# Altium footprint library misc.PcbLib: 32 footprints (part 2 of 2)
Each footprint in its own frame and in the unit in brackets; x right, y up, seen from the top. Pads: shape width x height; smd on the part's side, far side on the other; paste and mask are expansions set on the pad; w line width, h text height; cw(c..) or ccw(c..) is an arc to the next point about the centre after c.
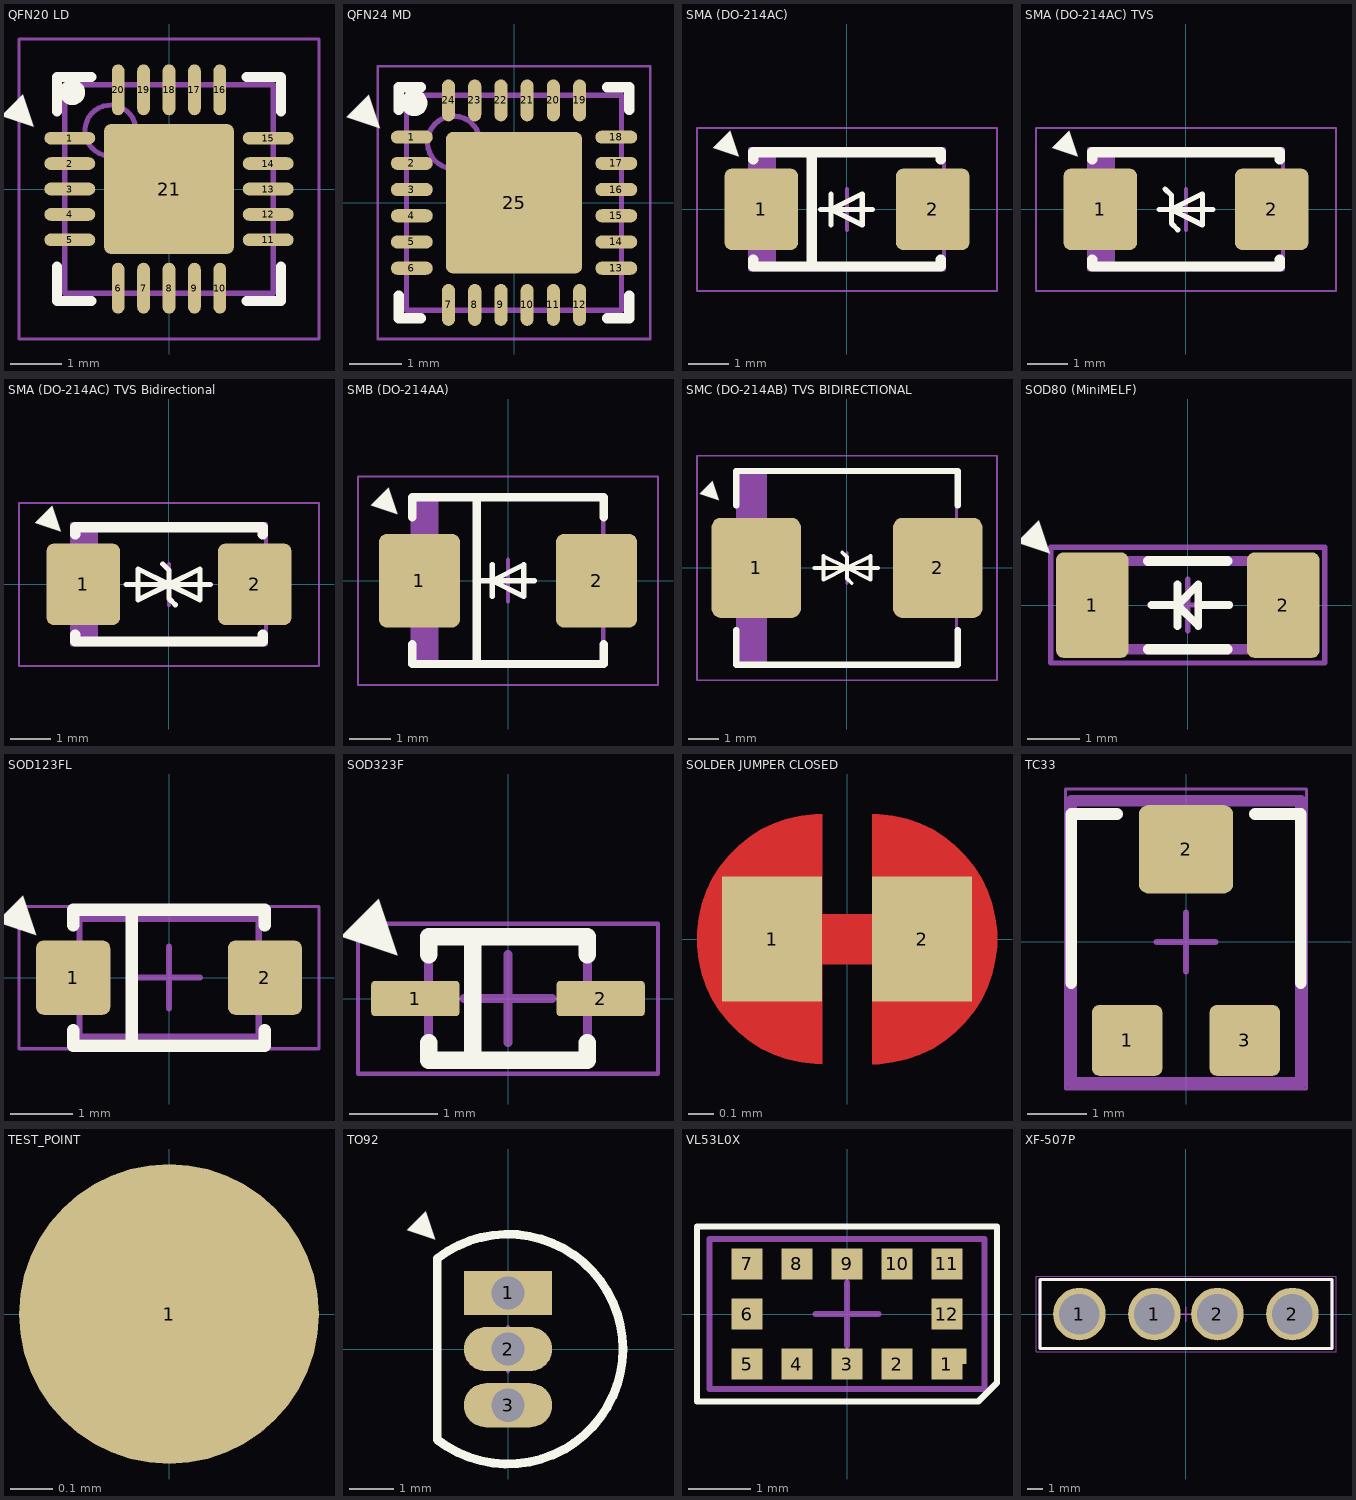
[diagram p1: the footprints below, top view; thin cyan lines are the x and y axes]

## QFN20 LD [mm] "QFN, 20-Leads, Body 4,00x4,00mm, Pitch 0,50mm, Thermal Pad 2,55x2,55mm, IPC Low Density"
height 0.8
pads (21):
  oval 1x0.25 smd mask+0.05: 1(-1.95,1) 2(-1.95,0.5) 3(-1.95,0) 4(-1.95,-0.5) 5(-1.95,-1) 11(1.95,-1) 12(1.95,-0.5) 13(1.95,0) 14(1.95,0.5) 15(1.95,1)
  oval 0.25x1 smd mask+0.05: 6(-1,-1.95) 7(-0.5,-1.95) 8(0,-1.95) 9(0.5,-1.95) 10(1,-1.95) 16(1,1.95) 17(0.5,1.95) 18(0,1.95) 19(-0.5,1.95) 20(-1,1.95)
  rrect10% 2.55x2.55 smd mask+0.05: 21(0,0)
Top Overlay:
  circle w0.25: c-1.9,1.9 r0.125
  lines w0.2: -2.2,-1.525 -2.2,-2.2 -1.525,-2.2 ; -2.2,1.525 -2.2,2.2 -1.525,2.2 ; 1.525,-2.2 2.2,-2.2 2.2,-1.525 ; 1.525,2.2 2.2,2.2 2.2,1.525
  text "▲" at -2.931,1.931 h1
Top Assembly:
  circle w0.1: c-1.15,1.15 r0.5
  lines w0.1: -2.05,-2.05 -2.05,2.05 2.05,2.05 2.05,-2.05 -2.05,-2.05
Top Courtyard:
  lines w0.05: -2.95,-2.95 2.95,-2.95 2.95,2.95 -2.95,2.95 -2.95,-2.95
Top Component Center:
  lines w0.1: -0.5,0 0.5,0 ; 0,-0.5 0,0.5
3D body "QFN20 LD.step": height 0.8, standoff 0, extent -2.1,-2.1 2.1,2.1

## QFN24 MD [mm] "QFN, 24-Leads, Body 4,00x4,00mm, Pitch 0,50mm, Thermal Pad 2,60x2,70mm, IPC Medium Density"
height 0.95
pads (25):
  oval 0.8x0.25 smd mask+0.05: 1(-1.95,1.25) 2(-1.95,0.75) 3(-1.95,0.25) 4(-1.95,-0.25) 5(-1.95,-0.75) 6(-1.95,-1.25) 13(1.95,-1.25) 14(1.95,-0.75) 15(1.95,-0.25) 16(1.95,0.25) 17(1.95,0.75) 18(1.95,1.25)
  oval 0.25x0.8 smd mask+0.05: 7(-1.25,-1.95) 8(-0.75,-1.95) 9(-0.25,-1.95) 10(0.25,-1.95) 11(0.75,-1.95) 12(1.25,-1.95) 19(1.25,1.95) 20(0.75,1.95) 21(0.25,1.95) 22(-0.25,1.95) 23(-0.75,1.95) 24(-1.25,1.95)
  rrect10% 2.6x2.7 smd mask+0.05: 25(0,0)
Top Overlay:
  circle w0.25: c-1.9,1.9 r0.125
  lines w0.2: -2.2,-1.775 -2.2,-2.2 -1.775,-2.2 ; -2.2,1.775 -2.2,2.2 -1.775,2.2 ; 1.775,-2.2 2.2,-2.2 2.2,-1.775 ; 1.775,2.2 2.2,2.2 2.2,1.775
  text "▲" at -2.831,2.121 h1
Top Assembly:
  circle w0.1: c-1.15,1.15 r0.5
  lines w0.1: -2.05,-2.05 -2.05,2.05 2.05,2.05 2.05,-2.05 -2.05,-2.05
Top Courtyard:
  lines w0.05: -2.6,-2.6 -2.6,2.6 2.6,2.6 2.6,-2.6 -2.6,-2.6
Top Component Center:
  lines w0.1: -0.5,0 0.5,0 ; 0,-0.5 0,0.5
3D body "QFN24 MD.step": height 0.95, standoff 0, extent -2.051,-2.051 2.051,2.051

## SMA (DO-214AC) [mm]
pads (2):
  rrect20% 1.8x2 smd mask+0.05: 1(-2.1,0) 2(2.1,0)
Top Overlay:
  lines w0.127: -0.643,0 0.627,0 ; -0.389,-0.381 -0.389,0 ; -0.389,0.381 -0.389,0 ; -0.389,0 0.373,-0.381 0.373,0 0.373,0.381 -0.389,0
  lines w0.254: -2.3,-1.231 -2.3,-1.4 2.3,-1.4 2.3,-1.231 ; -2.3,1.231 -2.3,1.4 2.3,1.4 2.3,1.231 ; -0.864,-1.4 -0.864,1.4
  text "▲" at -2.926,2 h1
Top Assembly:
  rectangle: -2.375,-1.475 -1.736,1.475
  lines w0.1: -2.375,-1.475 -2.375,1.475 2.375,1.475 2.375,-1.475 -2.375,-1.475
Top Courtyard:
  lines w0.05: -3.675,-2 3.675,-2 3.675,2 -3.675,2 -3.675,-2
Top Component Center:
  lines w0.1: -0.5,0 0.5,0 ; 0,-0.5 0,0.5
3D body "SMA (DO-214AC) LD.step": height 2.5, standoff 0, extent -2.595,-1.475 2.595,1.475

## SMA (DO-214AC) TVS [mm]
pads (2):
  rrect20% 1.8x2 smd mask+0.05: 1(-2.1,0) 2(2.1,0)
Top Overlay:
  lines w0.127: -0.658,0 0.658,0 ; -0.512,0.5 -0.358,0.346 -0.358,0 ; -0.204,-0.5 -0.358,-0.346 -0.358,0 ; -0.358,0 0.404,-0.381 0.404,0 0.404,0.381 -0.358,0
  lines w0.254: -2.3,-1.231 -2.3,-1.4 2.3,-1.4 2.3,-1.231 ; -2.3,1.231 -2.3,1.4 2.3,1.4 2.3,1.231
  text "▲" at -2.926,2 h1
Top Assembly:
  rectangle: -2.375,-1.475 -1.736,1.475
  lines w0.1: -2.375,-1.475 -2.375,1.475 2.375,1.475 2.375,-1.475 -2.375,-1.475
Top Courtyard:
  lines w0.05: -3.675,-2 3.675,-2 3.675,2 -3.675,2 -3.675,-2
Top Component Center:
  lines w0.1: -0.5,0 0.5,0 ; 0,-0.5 0,0.5
3D body "SMA (DO-214AC) LD.step": height 2.5, standoff 0, extent -2.595,-1.475 2.595,1.475

## SMA (DO-214AC) TVS Bidirectional [mm]
pads (2):
  rrect20% 1.8x2 smd mask+0.05: 1(-2.1,0) 2(2.1,0)
Top Overlay:
  lines w0.127: -1.054,0 1.016,0 ; -0.154,0.5 0,0.346 0,0 ; 0.154,-0.5 0,-0.346 0,0 ; 0,0 0.762,-0.381 0.762,0 0.762,0.381 0,0 ; 0,0 -0.762,-0.381 -0.762,0 -0.762,0.381 0,0
  lines w0.254: -2.3,-1.231 -2.3,-1.4 2.3,-1.4 2.3,-1.231 ; -2.3,1.231 -2.3,1.4 2.3,1.4 2.3,1.231
  text "▲" at -2.926,2 h1
Top Assembly:
  rectangle: -2.375,-1.475 -1.736,1.475
  lines w0.1: -2.375,-1.475 -2.375,1.475 2.375,1.475 2.375,-1.475 -2.375,-1.475
Top Courtyard:
  lines w0.05: -3.675,-2 3.675,-2 3.675,2 -3.675,2 -3.675,-2
Top Component Center:
  lines w0.1: -0.5,0 0.5,0 ; 0,-0.5 0,0.5
3D body "SMA (DO-214AC) LD.step": height 2.5, standoff 0, extent -2.595,-1.475 2.595,1.475

## SMB (DO-214AA) [mm] "Molded Diode, 2-Leads, Body 4,31x3,62mm, IPC Low Density"
height 2.5
pads (2):
  rrect20% 1.95x2.25 smd mask+0.05: 1(-2.125,0) 2(2.125,0)
Top Overlay:
  lines w0.127: -0.635,0 0.635,0 ; -0.381,-0.381 -0.381,0 ; -0.381,0.381 -0.381,0 ; -0.381,0 0.381,0.381 0.381,0 0.381,-0.381 -0.381,0
  lines w0.2: -2.3,-1.525 -2.3,-2 2.3,-2 2.3,-1.525 ; -2.3,1.525 -2.3,2 2.3,2 2.3,1.525 ; -0.75,-2 -0.75,2
  text "▲" at -2.926,2.3 h1
Top Assembly:
  rectangle: -2.285,-1.97 -1.67,1.97
  lines w0.1: -2.285,-1.97 -2.285,1.97 2.285,1.97 2.285,-1.97 -2.285,-1.97
Top Courtyard:
  lines w0.05: -3.6,-2.5 -3.6,2.5 3.6,2.5 3.6,-2.5 -3.6,-2.5
Top Component Center:
  lines w0.1: -0.5,0 0.5,0 ; 0,-0.5 0,0.5
3D body "SMB.step": height 2.5, standoff 0, extent -2.505,-1.97 2.505,1.97

## SMC (DO-214AB) TVS BIDIRECTIONAL [mm] "Molded Diode, 2-Leads, Body 6,86x5,91mm, IPC Low Density"
height 2.62
pads (2):
  rrect20% 2.9x3.25 smd mask+0.05: 1(-2.95,0) 2(2.95,0)
Top Overlay:
  lines w0.127: -1.054,0 1.016,0 ; -0.154,0.5 0,0.346 0,0 ; 0.154,-0.5 0,-0.346 0,0 ; 0,0 -0.762,0.381 -0.762,0 -0.762,-0.381 0,0 ; 0,0 0.762,0.381 0.762,0 0.762,-0.381 0,0
  lines w0.2: -3.6,-2.025 -3.6,-3.15 3.6,-3.15 3.6,-2.025 ; -3.6,2.025 -3.6,3.15 3.6,3.15 3.6,2.025
  text "▲" at -4.426,2.9 h1
Top Assembly:
  rectangle: -3.555,-3.11 -2.599,3.11
  lines w0.1: -3.555,-3.11 3.555,-3.11 3.555,3.11 -3.555,3.11 -3.555,-3.11
Top Courtyard:
  lines w0.05: -4.875,-3.65 4.875,-3.65 4.875,3.65 -4.875,3.65 -4.875,-3.65
Top Component Center:
  lines w0.1: -0.5,0 0.5,0 ; 0,-0.5 0,0.5
3D body "SMC (DO-214AB).step": height 2.62, standoff 0, extent -3.775,-3.11 3.775,3.11

## SOD80 (MiniMELF) [mm] "SOD80 - MiniMELF - MMA - DO-213AA"
pads (2):
  rrect20% 1.4x2.03 smd mask+0.05: 1(-1.84,0) 2(1.84,0)
Top Overlay:
  lines w0.15: -0.7,0 -0.2,0 ; -0.2,-0.4 -0.2,0.4 ; 0.2,0 0.8,0 ; -0.2,0 0.2,0.4 0.2,-0.4 -0.2,0
  lines w0.2: -0.765,-0.85 0.765,-0.85 ; -0.765,0.85 0.765,0.85
  text "▲" at -2.926,1.7 h1
Top Assembly:
  lines w0.2: -1.855,-0.85 1.855,-0.85 1.855,0.85 -1.855,0.85 -1.855,-0.85
Top Courtyard:
  lines w0.1: -2.64,-1.115 -2.64,1.115 2.64,1.115 2.64,-1.115 -2.64,-1.115
Top Component Center:
  lines w0.1: -0.5,0 0.5,0 ; 0,-0.5 0,0.5
3D body "Diode_Microsemi_JANTX1N4148UR-1_eec.STEP": height 1.7, standoff 0, extent -1.753,-0.847 1.753,0.845

## SOD123FL [mm]
height 1.1
pads (2):
  rrect20% 1.2x1.2 smd mask+0.05: 1(-1.55,0) 2(1.55,0)
Top Overlay:
  lines w0.2: -1.55,-0.85 -1.55,-1.1 1.55,-1.1 1.55,-0.85 ; -1.55,0.85 -1.55,1.1 1.55,1.1 1.55,0.85 ; -0.6,-1.1 -0.6,1.1
  text "▲" at -2.426,1.4 h1
Top Assembly:
  lines w0.1: -1.45,-0.95 1.45,-0.95 1.45,0.95 -1.45,0.95 -1.45,-0.95
Top Courtyard:
  lines w0.05: -2.425,-1.15 2.425,-1.15 2.425,1.15 -2.425,1.15 -2.425,-1.15
Top Component Center:
  lines w0.1: -0.5,0 0.5,0 ; 0,-0.5 0,0.5
3D body "SOD123FL LD.step": height 1.1, standoff 0, extent -1.825,-0.95 1.825,0.95

## SOD323F [mm]
height 0.75
pads (2):
  rrect20% 1x0.4 smd mask+0.05: 1(-1.05,0) 2(1.05,0)
Top Overlay:
  lines w0.2: -0.9,-0.5 -0.9,-0.7 0.9,-0.7 0.9,-0.5 ; -0.9,0.5 -0.9,0.7 0.9,0.7 0.9,0.5 ; -0.4,-0.7 -0.4,0.7
  text "▲" at -1.526,1.2 h1
Top Assembly:
  lines w0.1: -0.9,-0.675 0.9,-0.675 0.9,0.675 -0.9,0.675 -0.9,-0.675
Top Courtyard:
  lines w0.05: -1.7,-0.85 1.7,-0.85 1.7,0.85 -1.7,0.85 -1.7,-0.85
Top Component Center:
  lines w0.1: -0.5,0 0.5,0 ; 0,-0.5 0,0.5
3D body "SOD323F MD.step": height 0.75, standoff 0, extent -1.25,-0.675 1.25,0.675

## SOLDER JUMPER CLOSED [mm]
pads (2):
  rect 0.4x0.5 smd mask+0: 1(-0.3,0) 2(0.3,0)
Top Layer:
  region: 0.1,0.5 0.128,0.5 0.184,0.494 0.239,0.481 0.292,0.463 0.342,0.438 0.39,0.408 0.434,0.373 0.473,0.334 0.508,0.29 0.538,0.242 0.563,0.192 0.581,0.139 0.594,0.084 0.6,0.028 0.6,-0.028 0.594,-0.084 0.581,-0.139 0.563,-0.192 0.538,-0.242 0.508,-0.29 0.473,-0.334 0.434,-0.373 0.39,-0.408 0.342,-0.438 0.292,-0.463 0.239,-0.481 0.184,-0.494 0.128,-0.5 0.1,-0.5
  region: -0.1,0.5 -0.128,0.5 -0.184,0.494 -0.239,0.481 -0.292,0.463 -0.342,0.438 -0.39,0.408 -0.434,0.373 -0.473,0.334 -0.508,0.29 -0.538,0.242 -0.563,0.192 -0.581,0.139 -0.594,0.084 -0.6,0.028 -0.6,-0.028 -0.594,-0.084 -0.581,-0.139 -0.563,-0.192 -0.538,-0.242 -0.508,-0.29 -0.473,-0.334 -0.434,-0.373 -0.39,-0.408 -0.342,-0.438 -0.292,-0.463 -0.239,-0.481 -0.184,-0.494 -0.128,-0.5 -0.1,-0.5
  region: -0.1,0.1 -0.1,-0.1 0.1,-0.1 0.1,0.1
Top Solder:
  region: 0.1,0.5 0.128,0.5 0.184,0.494 0.239,0.481 0.292,0.463 0.342,0.438 0.39,0.408 0.434,0.373 0.473,0.334 0.508,0.29 0.538,0.242 0.563,0.192 0.581,0.139 0.594,0.084 0.6,0.028 0.6,-0.028 0.594,-0.084 0.581,-0.139 0.563,-0.192 0.538,-0.242 0.508,-0.29 0.473,-0.334 0.434,-0.373 0.39,-0.408 0.342,-0.438 0.292,-0.463 0.239,-0.481 0.184,-0.494 0.128,-0.5 0.1,-0.5
  region: -0.1,0.5 -0.128,0.5 -0.184,0.494 -0.239,0.481 -0.292,0.463 -0.342,0.438 -0.39,0.408 -0.434,0.373 -0.473,0.334 -0.508,0.29 -0.538,0.242 -0.563,0.192 -0.581,0.139 -0.594,0.084 -0.6,0.028 -0.6,-0.028 -0.594,-0.084 -0.581,-0.139 -0.563,-0.192 -0.538,-0.242 -0.508,-0.29 -0.473,-0.334 -0.434,-0.373 -0.39,-0.408 -0.342,-0.438 -0.292,-0.463 -0.239,-0.481 -0.184,-0.494 -0.128,-0.5 -0.1,-0.5
  region: -0.1,0.5 0.1,0.5 0.1,-0.5 -0.1,-0.5

## TC33 [mm] "TC33 - 3 mm SMD Trimpot® Trimming Potentiometer"
height 1
pads (3):
  rrect20% 1.2x1.2 smd paste+0 mask+0.05: 1(-1,-1.675) 3(1,-1.675)
  rrect20% 1.6x1.5 smd paste+0 mask+0.05: 2(0,1.575)
Top Overlay:
  lines w0.2: -1.95,-0.7 -1.95,2.175 -1.175,2.175 ; 1.175,2.175 1.95,2.175 1.95,-0.7
Top Assembly:
  lines w0.2: -1.95,-2.4 -1.95,2.4 1.95,2.4 1.95,-2.4 -1.95,-2.4
Top Courtyard:
  lines w0.05: -2.05,-2.375 -2.05,2.425 ; 2.05,-2.375 2.05,2.6 -2.05,2.6 -2.05,-2.5 2.05,-2.5 2.05,2.425
Top Component Center:
  lines w0.1: -0.5,0 0.5,0 ; 0,-0.5 0,0.5
3D body "Res_Bourns_TC33X-2-104E_eec.STEP": height 0.25, standoff 0, extent -2.05,-2.375 2.05,2.425

## TEST_POINT [mm]
pads (1):
  round 0.7 smd mask+0.05: 1(0,0)

## TO92 [mm]
pads (3):
  rect 2x1 hole 0.75 mask+0.05: 1(0,1.27)
  oval 2x1 hole 0.75 mask+0.05: 2(0,0) 3(0,-1.27)
Top Overlay:
  lines w0.2: -1.601,-2.049 ccw(c0,0) -1.601,2.049 -1.6,-2.049
  text "▲" at -1.915,3.189 h1
Top Assembly:
  lines w0.1: -1.601,-2.049 ccw(c0,0) -1.601,2.049 -1.6,-2.049
Top Courtyard:
  lines w0.1: -1.601,-2.049 ccw(c0,0) -1.601,2.049 -1.6,-2.049
Top Component Center:
  lines w0.1: -0.5,0 0.5,0 ; 0,-0.5 0,0.5
3D body: height 5.2, standoff 0, extent -1.6,-2.611 2.599,2.611

## VL53L0X [mm]
pads (13):
  rect 0.5x0.5 smd mask+0.05: 1(1.6,-0.8) 2(0.8,-0.8) 3(0,-0.8) 4(-0.8,-0.8) 5(-1.6,-0.8) 6(-1.6,0) 7(-1.6,0.8) 8(-0.8,0.8) 9(0,0.8) 10(0.8,0.8) 11(1.6,0.8) 12(1.6,0)
  rrect20% 0.08x0.25 smd mask+0.05: 1(1.875,-0.675)
Top Overlay:
  lines w0.1: -2.4,-1.4 2.1,-1.4 2.4,-1.1 2.4,1.4 -2.4,1.4 -2.4,-1.4
Top Assembly:
  lines w0.1: -2.2,-1.2 2.2,-1.2 2.2,1.2 -2.2,1.2 -2.2,-1.2
Top Component Center:
  lines w0.1: -0.5,0 0.5,0 ; 0,-0.5 0,0.5
3D body "vl53l0x.SLDPRT": height 1, standoff -0.03, extent -2.2,-1.2 2.2,1.2

## XF-507P [mm] "ATO Blade Fuse Holder"
pads (4):
  round 3.5 hole 2.7 mask+0.05: 1(-7.1,0) 1(-2.1,0) 2(2.1,0) 2(7.1,0)
Top Overlay:
  lines w0.2: -9.75,-2.3 9.75,-2.3 9.75,2.3 -9.75,2.3 -9.75,-2.3
Top Assembly:
  lines w0.2: -9.75,-2.3 9.75,-2.3 9.75,2.3 -9.75,2.3 -9.75,-2.3
Top Courtyard:
  lines w0.05: -10,-2.5 10,-2.5 10,2.5 -10,2.5 -10,-2.5
Top Component Center:
  lines w0.1: -0.5,0 0.5,0 ; 0,-0.5 0,0.5
3D body "Gnizdo bezpiecznika samochodowego.SLDPRT": height 7.8, standoff -3.25, extent -9.85,-2.25 9.85,2.25
3D body "3A ATM FUSE, PURPLE.STEP": height 20.81, standoff 2.01, extent -9.525,-2.54 9.525,2.54